# Altium footprint library esp32s3_wroom.PcbLib: 7 footprints
Each footprint in its own frame and in the unit in brackets; x right, y up, seen from the top. Pads: shape width x height; smd on the part's side, far side on the other; paste and mask are expansions set on the pad; w line width, h text height; cw(c..) or ccw(c..) is an arc to the next point about the centre after c.
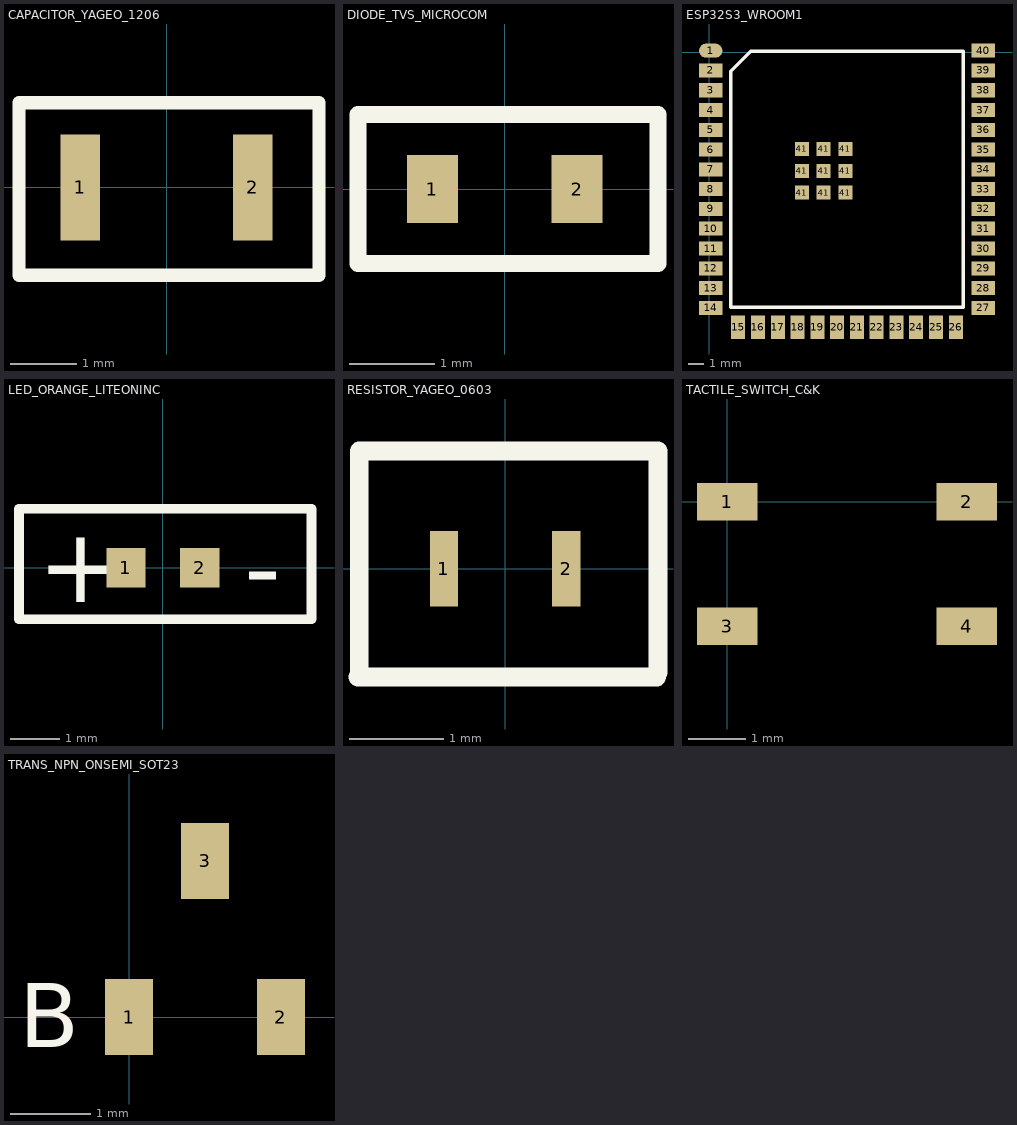
[diagram p0: the footprints below, top view; thin cyan lines are the x and y axes]

## CAPACITOR_YAGEO_1206 [mm]
pads (2):
  rect 0.6x1.6 smd: 1(-1.3,0) 2(1.3,0)
Top Overlay:
  lines w0.2: -2.225,-1.325 2.3,-1.325 2.3,1.275 -2.225,1.275 -2.225,-0.175 -2.225,-0.813 -2.225,-0.888 -2.225,-1.325

## DIODE_TVS_MICROCOM [mm]
pads (2):
  rect 0.6x0.8 smd: 1(-0.85,0) 2(0.85,0)
Top Overlay:
  lines w0.2: -1.725,-0.875 -1.725,-0.475 -1.725,0.35 -1.725,0.875 1.8,0.875 1.8,-0.875 -1.725,-0.875

## ESP32S3_WROOM1 [mm]
pads (49):
  oval 1.5x0.9 smd: 1(0.1,0.1)
  rect 1.5x0.9 smd: 2(0.1,-1.17) 3(0.1,-2.44) 4(0.1,-3.71) 5(0.1,-4.98) 6(0.1,-6.25) 7(0.1,-7.52) 8(0.1,-8.79) 9(0.1,-10.06) 10(0.1,-11.33) 11(0.1,-12.6) 12(0.1,-13.87) 13(0.1,-15.14) 14(0.1,-16.41) 27(17.6,-16.41) 28(17.6,-15.14) 29(17.6,-13.87) 30(17.6,-12.6) 31(17.6,-11.33) 32(17.6,-10.06) 33(17.6,-8.79) 34(17.6,-7.52) 35(17.6,-6.25) 36(17.6,-4.98) 37(17.6,-3.71) 38(17.6,-2.44) 39(17.6,-1.17) 40(17.6,0.1)
  rect 0.9x1.5 smd: 15(1.865,-17.66) 16(3.135,-17.66) 17(4.405,-17.66) 18(5.675,-17.66) 19(6.945,-17.66) 20(8.215,-17.66) 21(9.485,-17.66) 22(10.755,-17.66) 23(12.025,-17.66) 24(13.295,-17.66) 25(14.565,-17.66) 26(15.835,-17.66)
  rect 0.9x0.9 smd: 41(5.95,-9.01) 41(5.95,-7.61) 41(5.95,-6.21) 41(7.35,-9.01) 41(7.35,-7.61) 41(7.35,-6.21) 41(8.75,-9.01) 41(8.75,-7.61) 41(8.75,-6.21)
Top Overlay:
  lines w0.2: 1.385,-16.375 16.315,-16.375 16.315,0.065 2.67,0.065 1.385,-1.22 1.385,-16.375

## LED_ORANGE_LITEONINC [mm]
pads (2):
  rect 0.8x0.8 smd: 1(-0.75,0) 2(0.75,0)
Top Overlay:
  lines w0.2: -2.925,-1.05 3.025,-1.05 3.025,1.2 -2.925,1.2 -2.925,0.325 -2.925,-1.05
  text "-" at 1.654,-0.733 h1.52
  text "+" at -2.546,-0.7 h1.52

## RESISTOR_YAGEO_0603 [mm]
pads (2):
  rect 0.3x0.8 smd: 1(-0.65,0) 2(0.65,0)
Top Overlay:
  lines w0.2: -1.562,-1.15 -0.769,-1.15 0.819,-1.15 1.613,-1.15 ; -1.55,-1.1 -1.55,0.35 -1.55,1.25 1.625,1.25 1.625,-1.1

## TACTILE_SWITCH_C&K [mm]
pads (4):
  rect 1.05x0.65 smd: 1(0,0) 2(4.15,0) 3(0,-2.15) 4(4.15,-2.15)

## TRANS_NPN_ONSEMI_SOT23 [mm]
pads (3):
  rect 0.6x0.95 smd: 1(0,0) 2(1.9,0) 3(0.95,1.95)
Top Overlay:
  text "B" at -1.375,-0.375 h0.8